# EAGLE library part DCDC_NDTD (library wheat)
dc/dc converter, murata NDTD
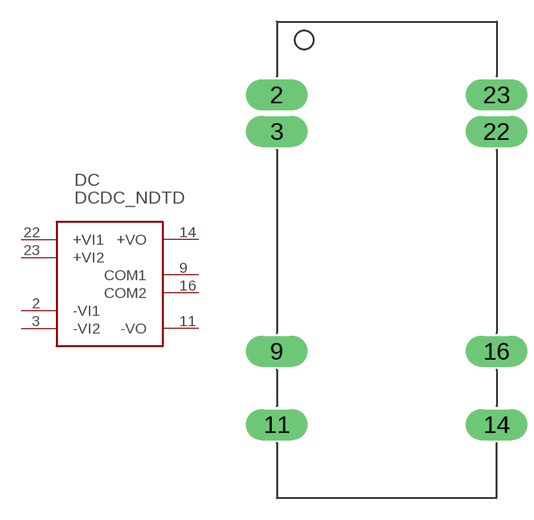
[diagram p117: symbol with the pads of DCDC_NDTD; footprint DCDC_NDTD]

Designator prefix DC

## DCDC_NDTD  [DCDC_NDTD]
2  -VI1  in
3  -VI2  in
9  COM1  out
11  -VO  out
14  +VO  out
16  COM2  out
22  +VI1  in
23  +VI2  in

## Footprint DCDC_NDTD (pad centres in mm)
DC-DC converter, Murate NDTD
drill 1.422 pad 1.93 long: 2 0,-2.54; 3 0,-5.08; 9 0,-20.32; 11 0,-25.4; 14 15.24,-25.4; 16 15.24,-20.32; 22 15.24,-5.08; 23 15.24,-2.54